# EAGLE library part TS922 (library Micromirror_Ampli_PCB)
STMicroelectronics - TS922IxT , Operational Amplifier, Rail-to-Rail, Dual 2,7 V ~ 12 V, DIgi-Key : 497-6619-1-ND (TSSOP8), DIgi-Key : 497-6035-1-ND (SO8)
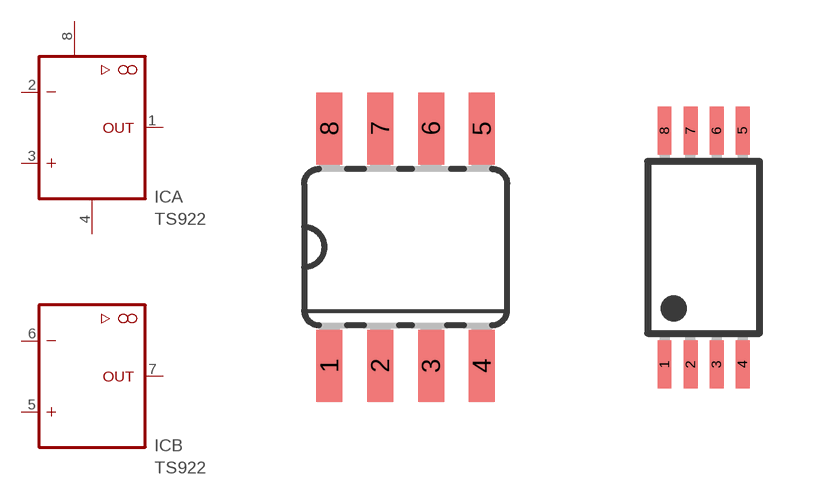
[diagram p2: symbol with the pads of SO08; footprints SO08, TSSOP8]

Designator prefix IC; gates A=OPAMP B=OPAMP P=PWR_+5V/GND

## TS922IDT (CASE: SO-8; CHANNEL: 2; CMRR: 60dB; DIGI-KEY: 497-6035-1-ND; FARNELL: 1642724; GPB: 4 MHz; IOUT-MAX: 80mA; MOUSER: 511-TS922IDT; OPERATING-TEMPERATURE: -40°C ~ 125°C; SR: 1.3 V/us; SUPPLY-CURRENT-PRO-CHANNEL: 3mA; SUPPLY-MIN-MAX: 2,7 V ~ 12 V; TYPE: TS922IDT)  [SO08]
1  A:OUT  out
2  A:-IN  in
3  A:+IN  in
4  P:GND  pwr
5  B:+IN  in
6  B:-IN  in
7  B:OUT  out
8  P:+5V  pwr

## TS922IPT (CASE: TSSOP-8; CHANNEL: 2; CMRR: 60 dB; DIGI-KEY: 497-6619-1-ND; FARNELL: 1131996; GPB: 4 MHz; IOUT-MAX: 80mA; MOUSER: 511-TS922IP; OPERATING-TEMPERATURE: -40°C ~ 125°C; SR: 1.3 V/us; SUPPLY-CURRENT-PRO-CHANNEL: 3mA; SUPPLY-MIN-MAX: (±) 2,7 V ~ 12 V; TYPE: TS922IPT)  [TSSOP8]
Pads as for SO08

## Footprint SO08 (pad centres in mm)
Package/Case SO8, Plastic micropackage 4,9 x 3.9 mm
smd 0.65 x 1.8: 1 -1.905,-2.97; 2 -0.635,-2.97; 3 0.635,-2.97; 4 1.905,-2.97; 5 1.905,2.97; 6 0.635,2.97; 7 -0.635,2.97; 8 -1.905,2.97

## Footprint TSSOP8 (pad centres in mm)
Package/Case TSSOP8 Thin shrink small outline package 3 x 4.4 mm
smd 0.35 x 1.2: 1 -0.975,-2.925; 2 -0.325,-2.925; 3 0.325,-2.925; 4 0.975,-2.925; 5 0.975,2.925; 6 0.325,2.925; 7 -0.325,2.925; 8 -0.975,2.925